# EAGLE library part USBC-PLUG-?* (library USB)
USB-C Plug Board Edge Mid-Mount Technologies: 001 30 µin gold plating Tray 101 Gold Flash over 30µin PbNi Tray 201 15 µin gold plating Tray 011 30 µin gold plating Reel 111 Gold Flash over 30µin PbNi Reel 211 15 µin gold plating Reel
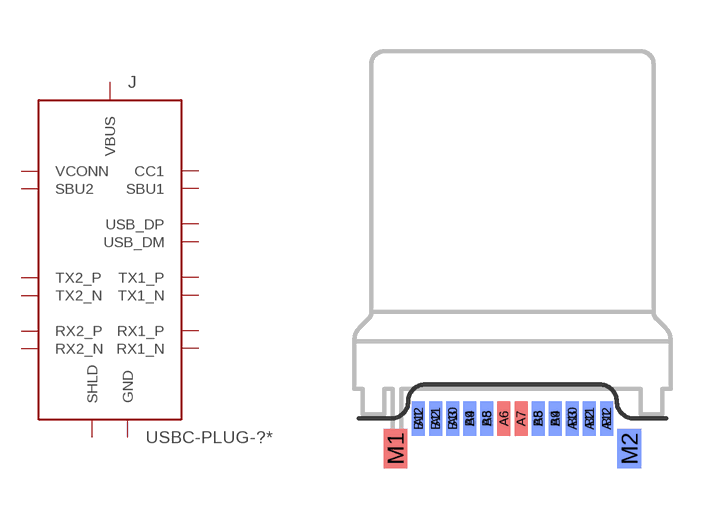
[diagram p2: symbol with the pads of MOLEX-1054440XXX; footprint MOLEX-1054440XXX]

Designator prefix J

## USBC-PLUG-1054440001 (MF: MOLEX; MPN: 1054440001), USBC-PLUG-1054440011 (MF: MOLEX; MPN: 1054440011), USBC-PLUG-1054440101 (MF: MOLEX; MPN: 1054440101), USBC-PLUG-1054440111 (MF: MOLEX; MPN: 1054440111), USBC-PLUG-1054440201 (MF: MOLEX; MPN: 1054440201), USBC-PLUG-1054440211 (MF: MOLEX; MPN: 1054440211)  [MOLEX-1054440XXX]
A1  GND
A2  TX1_P
A3  TX1_N
A4  VBUS
A5  CC1
A6  USB_DP
A7  USB_DM
A8  SBU1
A9  VBUS
A10  RX2_N
A11  RX2_P
A12  GND
B1  GND
B2  TX2_P
B3  TX2_N
B4  VBUS
B5  VCONN
B8  SBU2
B9  VBUS
B10  RX1_N
B11  RX1_P
B12  GND
M1  SHLD
M2  SHLD

## Footprint MOLEX-1054440XXX (pad centres in mm)
smd 0.38 x 1: A1 -2.75,0; A2 -2.25,0; A3 -1.75,0; A4 -1.25,0; A5 -0.75,0; A6 -0.25,0; A7 0.25,0; A8 0.75,0; A9 1.25,0; A10 1.75,0; A11 2.25,0; A12 2.75,0
smd 0.38 x 1 bottom: B1 2.75,0; B2 2.25,0; B3 1.75,0; B4 1.25,0; B5 0.75,0; B8 -0.75,0; B9 -1.25,0; B10 -1.75,0; B11 -2.25,0; B12 -2.75,0
smd 0.7 x 1.15: M1 -3.42,-0.88
smd 0.7 x 1.15 bottom: M2 3.42,-0.88